# EAGLE library part IS61WV51216 (library PEGMA)
Source: CYPRESS cy7c1059dv33_8.pdf
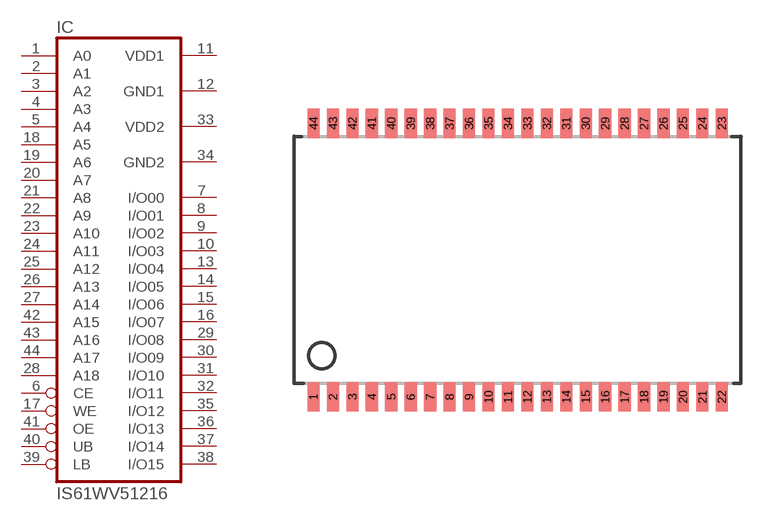
[diagram p7: symbol with the pads of TSOPII-Z44; footprint TSOPII-Z44]

Designator prefix IC

## IS61WV51216-10ZSXI  [TSOPII-Z44]
1  A0  in
2  A1  in
3  A2  in
4  A3  in
5  A4  in
6  CE  in
7  I/O00
8  I/O01
9  I/O02
10  I/O03
11  VDD1  pwr
12  GND1  pwr
13  I/O04
14  I/O05
15  I/O06
16  I/O07
17  WE  in
18  A5  in
19  A6  in
20  A7  in
21  A8  in
22  A9  in
23  A10  in
24  A11  in
25  A12  in
26  A13  in
27  A14  in
28  A18  in
29  I/O08
30  I/O09
31  I/O10
32  I/O11
33  VDD2  pwr
34  GND2  pwr
35  I/O12
36  I/O13
37  I/O14
38  I/O15
39  LB  in
40  UB  in
41  OE  in
42  A15  in
43  A16  in
44  A17  in

## Footprint TSOPII-Z44 (pad centres in mm)
44 PIN TSOP II Z44 Source: CYPRESS cy7c1049cv33_8.pdf
smd 0.5 x 1.2: 1 -8.4,-5.627; 2 -7.6,-5.627; 3 -6.8,-5.627; 4 -6,-5.627; 5 -5.2,-5.627; 6 -4.4,-5.627; 7 -3.6,-5.627; 8 -2.8,-5.627; 9 -2,-5.627; 10 -1.2,-5.627; 11 -0.4,-5.627; 12 0.4,-5.627; 13 1.2,-5.627; 14 2,-5.627; 15 2.8,-5.627; 16 3.6,-5.627; 17 4.4,-5.627; 18 5.2,-5.627; 19 6,-5.627; 20 6.8,-5.627; 21 7.6,-5.627; 22 8.4,-5.627; 23 8.4,5.627; 24 7.6,5.627; 25 6.8,5.627; 26 6,5.627; 27 5.2,5.627; 28 4.4,5.627; 29 3.6,5.627; 30 2.8,5.627; 31 2,5.627; 32 1.2,5.627; 33 0.4,5.627; 34 -0.4,5.627; 35 -1.2,5.627; 36 -2,5.627; 37 -2.8,5.627; 38 -3.6,5.627; 39 -4.4,5.627; 40 -5.2,5.627; 41 -6,5.627; 42 -6.8,5.627; 43 -7.6,5.627; 44 -8.4,5.627